# Altium integrated library BAT-HLD-001.IntLib: 1 symbol
Pins are listed as number, name and electrical type; pins without a type are passive.

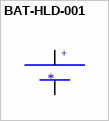
[diagram p0: symbol BAT-HLD-001]

## BAT-HLD-001
designator ?
Battery Retainer Coin, 20.0mm 1 Cell SMD _SMT_ Tab; MP: BAT-HLD-001; MF: Linx Technologies; Digi-Key_Purchase_URL: https://www.digikey.com/product-detail/en/linx-technologies-inc/BAT-HLD-001-TR/BAT-HLD-001-TRCT-ND/5803803?utm_source=snapeda&utm_medium=aggregator&utm_campaign=symbol; SnapEDA_Link: https://www.snapeda.com/parts/BAT-HLD-001/Linx%20Technologies%20Inc./view-part/184402/?ref=snap; Value: *; Digi-Key_Part_Number: BAT-HLD-001-TRCT-ND; Package: None
footprint BAT-HLD-001
pins: +@1 (io), +@2 (io), NEG (io)
text: +